# Altium footprint library Michel.PcbLib: 49 footprints (part 3 of 4)
Each footprint in its own frame and in the unit in brackets; x right, y up, seen from the top. Pads: shape width x height; smd on the part's side, far side on the other; paste and mask are expansions set on the pad; w line width, h text height; cw(c..) or ccw(c..) is an arc to the next point about the centre after c.
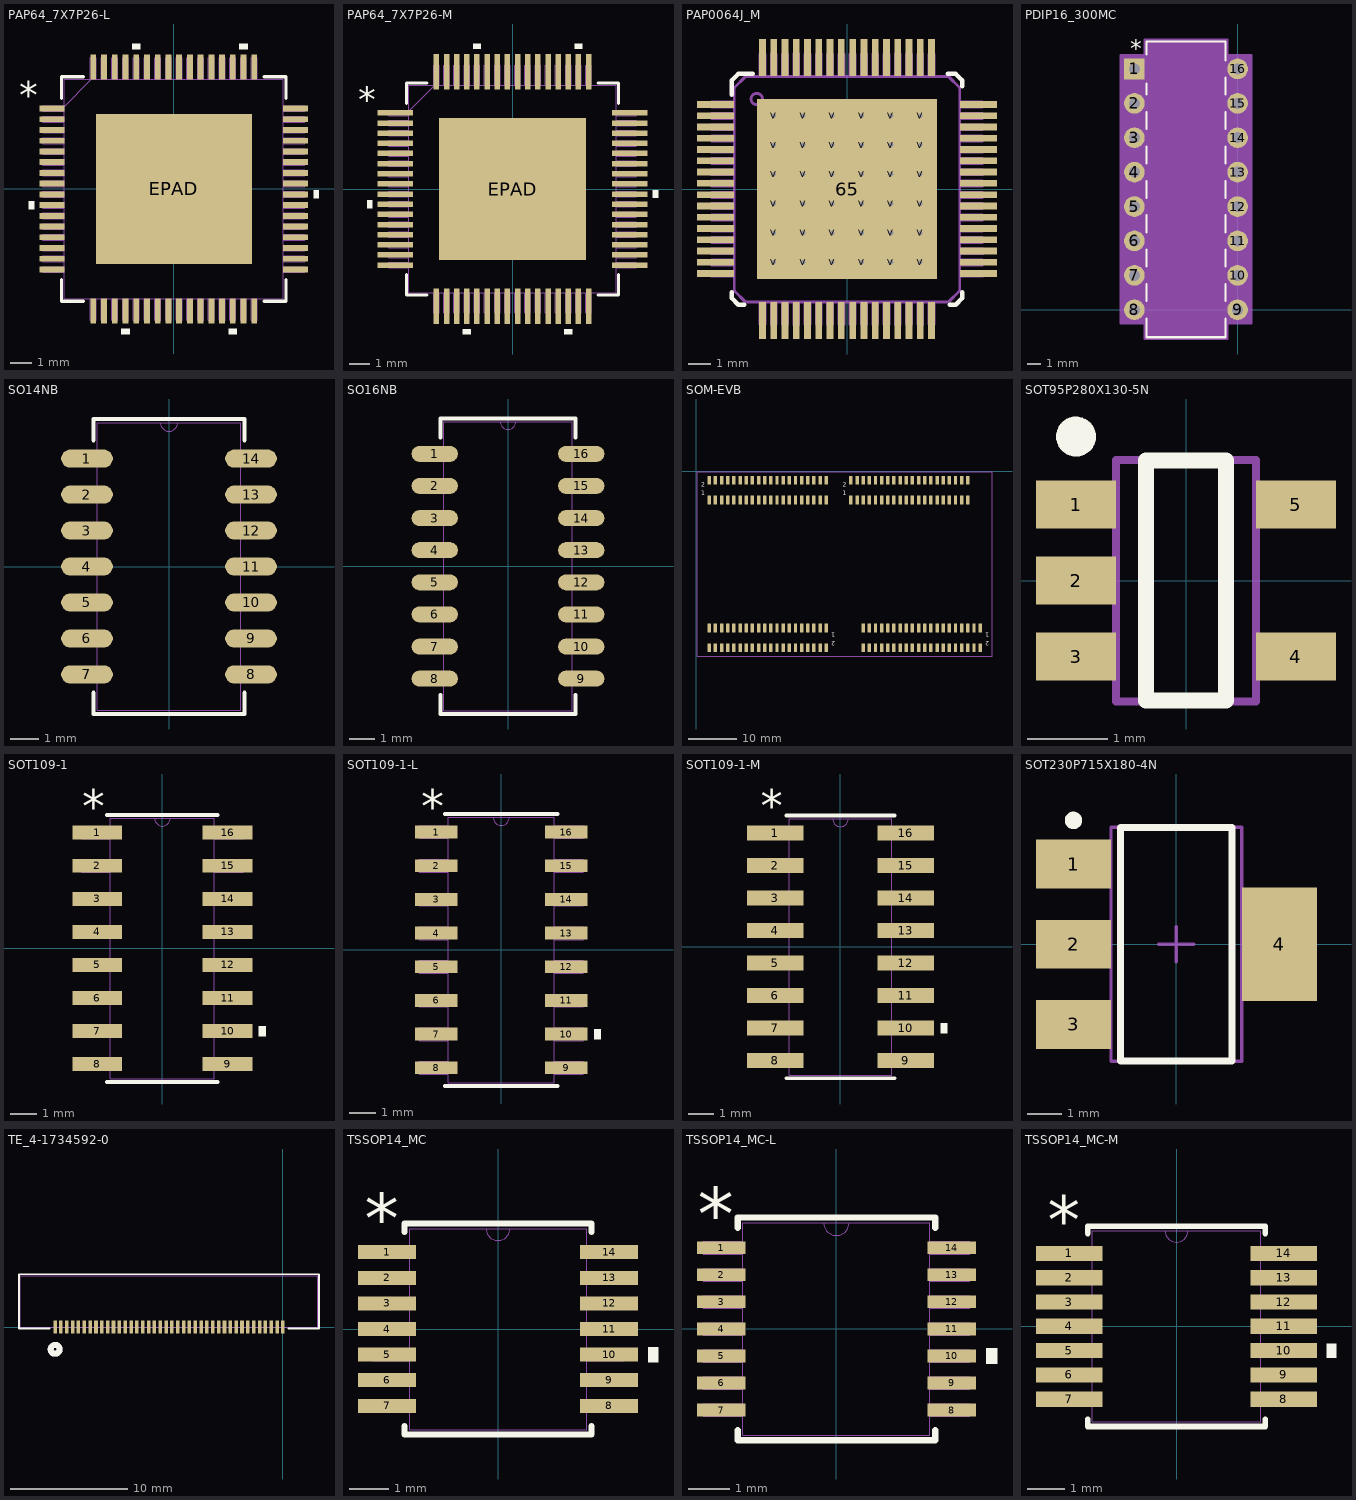
[diagram p2: the footprints below, top view; thin cyan lines are the x and y axes]

## PAP64_7X7P26-L [mm]
pads (65):
  rect 1.156x0.27 smd paste+0 mask+0: 1(-5.674,3.75) 2(-5.674,3.25) 3(-5.674,2.75) 4(-5.674,2.25) 5(-5.674,1.75) 6(-5.674,1.25) 7(-5.674,0.75) 8(-5.674,0.25) 9(-5.674,-0.25) 10(-5.674,-0.75) 11(-5.674,-1.25) 12(-5.674,-1.75) 13(-5.674,-2.25) 14(-5.674,-2.75) 15(-5.674,-3.25) 16(-5.674,-3.75) 33(5.674,-3.75) 34(5.674,-3.25) 35(5.674,-2.75) 36(5.674,-2.25) 37(5.674,-1.75) 38(5.674,-1.25) 39(5.674,-0.75) 40(5.674,-0.25) 41(5.674,0.25) 42(5.674,0.75) 43(5.674,1.25) 44(5.674,1.75) 45(5.674,2.25) 46(5.674,2.75) 47(5.674,3.25) 48(5.674,3.75)
  rect 0.27x1.156 smd paste+0 mask+0: 17(-3.75,-5.674) 18(-3.25,-5.674) 19(-2.75,-5.674) 20(-2.25,-5.674) 21(-1.75,-5.674) 22(-1.25,-5.674) 23(-0.75,-5.674) 24(-0.25,-5.674) 25(0.25,-5.674) 26(0.75,-5.674) 27(1.25,-5.674) 28(1.75,-5.674) 29(2.25,-5.674) 30(2.75,-5.674) 31(3.25,-5.674) 32(3.75,-5.674) 49(3.75,5.674) 50(3.25,5.674) 51(2.75,5.674) 52(2.25,5.674) 53(1.75,5.674) 54(1.25,5.674) 55(0.75,5.674) 56(0.25,5.674) 57(-0.25,5.674) 58(-0.75,5.674) 59(-1.25,5.674) 60(-1.75,5.674) 61(-2.25,5.674) 62(-2.75,5.674) 63(-3.25,5.674) 64(-3.75,5.674)
  rect 7.26x7 smd paste-3.617 mask-3.619: EPAD(0,0)
Top Overlay:
  region: -1.559,6.506 -1.94,6.506 -1.94,6.76 -1.559,6.76
  region: 3.441,6.506 3.06,6.506 3.06,6.76 3.441,6.76
  region: 6.506,-0.059 6.76,-0.059 6.76,-0.44 6.506,-0.44
  region: 2.94,-6.506 2.559,-6.506 2.559,-6.76 2.94,-6.76
  region: -2.06,-6.506 -2.441,-6.506 -2.441,-6.76 -2.06,-6.76
  region: -6.506,-0.56 -6.76,-0.56 -6.76,-0.941 -6.506,-0.941
  lines w0.152: -5.227,-4.218 -5.227,-5.227 -4.218,-5.227 ; -5.227,4.218 -5.227,5.227 -4.218,5.227 ; 4.218,-5.227 5.227,-5.227 5.227,-4.218 ; 4.218,5.227 5.227,5.227 5.227,4.218
  text "*" at -7.205,3.746 h1.27
Top Paste:
  drawing of 90 lines, arcs and shapes, not listed
Top Solder:
  region: 3.35,-3.564 3.35,3.564 3.694,3.564 3.694,-3.564
  region: 2.95,-3.564 2.95,3.564 2.562,3.564 2.562,-3.564
  region: 2.162,-3.564 2.162,3.564 1.775,3.564 1.775,-3.564
  region: 1.375,-3.564 1.375,3.564 0.987,3.564 0.987,-3.564
  region: 0.587,-3.564 0.587,3.564 0.2,3.564 0.2,-3.564
  region: -0.2,-3.564 -0.2,3.564 -0.587,3.564 -0.587,-3.564
  region: -0.987,-3.564 -0.987,3.564 -1.375,3.564 -1.375,-3.564
  region: -1.775,-3.564 -1.775,3.564 -2.162,3.564 -2.162,-3.564
  region: -2.562,-3.564 -2.562,3.564 -2.95,3.564 -2.95,-3.564
  region: -3.694,-3.564 -3.694,3.564 -3.35,3.564 -3.35,-3.564
  region: -3.694,-3.564 -3.694,-2.956 3.694,-2.956 3.694,-3.564
  region: -3.694,-2.556 -3.694,-2.168 3.694,-2.168 3.694,-2.556
  region: -3.694,-1.769 -3.694,-1.381 3.694,-1.381 3.694,-1.769
  region: -3.694,-0.981 -3.694,-0.594 3.694,-0.594 3.694,-0.981
  region: -3.694,-0.194 -3.694,0.194 3.694,0.194 3.694,-0.194
  region: -3.694,0.594 -3.694,0.981 3.694,0.981 3.694,0.594
  region: -3.694,1.381 -3.694,1.769 3.694,1.769 3.694,1.381
  region: -3.694,2.168 -3.694,2.556 3.694,2.556 3.694,2.168
  region: -3.694,2.956 -3.694,3.564 3.694,3.564 3.694,2.956
Mechanical 13:
  drawing of 261 lines, arcs and shapes, not listed
  text "*" at -5.036,3.365 h1.27
Mechanical 16:
  circle w0.127: c3.15,2.756 r0.191
  circle w0.127: c3.15,1.968 r0.191
  circle w0.127: c3.15,1.181 r0.191
  circle w0.127: c3.15,0.394 r0.191
  circle w0.127: c3.15,-0.394 r0.191
  circle w0.127: c3.15,-1.181 r0.191
  circle w0.127: c3.15,-1.968 r0.191
  circle w0.127: c3.15,-2.756 r0.191
  circle w0.127: c2.362,2.756 r0.191
  circle w0.127: c2.362,1.968 r0.191
  circle w0.127: c2.362,1.181 r0.191
  circle w0.127: c2.362,0.394 r0.191
  circle w0.127: c2.362,-0.394 r0.191
  circle w0.127: c2.362,-1.181 r0.191
  circle w0.127: c2.362,-1.968 r0.191
  circle w0.127: c2.362,-2.756 r0.191
  circle w0.127: c1.575,2.756 r0.191
  circle w0.127: c1.575,1.968 r0.191
  circle w0.127: c1.575,1.181 r0.191
  circle w0.127: c1.575,0.394 r0.191
  circle w0.127: c1.575,-0.394 r0.191
  circle w0.127: c1.575,-1.181 r0.191
  circle w0.127: c1.575,-1.968 r0.191
  circle w0.127: c1.575,-2.756 r0.191
  circle w0.127: c0.787,2.756 r0.191
  circle w0.127: c0.787,1.968 r0.191
  circle w0.127: c0.787,1.181 r0.191
  circle w0.127: c0.787,0.394 r0.191
  circle w0.127: c0.787,-0.394 r0.191
  circle w0.127: c0.787,-1.181 r0.191
  circle w0.127: c0.787,-1.968 r0.191
  circle w0.127: c0.787,-2.756 r0.191
  circle w0.127: c0,2.756 r0.191
  circle w0.127: c0,1.968 r0.191
  circle w0.127: c0,1.181 r0.191
  circle w0.127: c0,0.394 r0.191
  circle w0.127: c0,-0.394 r0.191
  circle w0.127: c0,-1.181 r0.191
  circle w0.127: c0,-1.968 r0.191
  circle w0.127: c0,-2.756 r0.191
  circle w0.127: c-0.787,2.756 r0.191
  circle w0.127: c-0.787,1.968 r0.191
  circle w0.127: c-0.787,1.181 r0.191
  circle w0.127: c-0.787,0.394 r0.191
  circle w0.127: c-0.787,-0.394 r0.191
  circle w0.127: c-0.787,-1.181 r0.191
  circle w0.127: c-0.787,-1.968 r0.191
  circle w0.127: c-0.787,-2.756 r0.191
  circle w0.127: c-1.575,2.756 r0.191
  circle w0.127: c-1.575,1.968 r0.191
  circle w0.127: c-1.575,1.181 r0.191
  circle w0.127: c-1.575,0.394 r0.191
  circle w0.127: c-1.575,-0.394 r0.191
  circle w0.127: c-1.575,-1.181 r0.191
  circle w0.127: c-1.575,-1.968 r0.191
  circle w0.127: c-1.575,-2.756 r0.191
  circle w0.127: c-2.362,2.756 r0.191
  circle w0.127: c-2.362,1.968 r0.191
  circle w0.127: c-2.362,1.181 r0.191
  circle w0.127: c-2.362,0.394 r0.191
  circle w0.127: c-2.362,-0.394 r0.191
  circle w0.127: c-2.362,-1.181 r0.191
  circle w0.127: c-2.362,-1.968 r0.191
  circle w0.127: c-2.362,-2.756 r0.191
  circle w0.127: c-3.15,2.756 r0.191
  circle w0.127: c-3.15,1.968 r0.191
  circle w0.127: c-3.15,1.181 r0.191
  circle w0.127: c-3.15,0.394 r0.191
  circle w0.127: c-3.15,-0.394 r0.191
  circle w0.127: c-3.15,-1.181 r0.191
  circle w0.127: c-3.15,-1.968 r0.191
  circle w0.127: c-3.15,-2.756 r0.191
3D body: height 0.25, standoff 0, extent 0,0 0.254,0.254

## PAP64_7X7P26-M [mm]
pads (65):
  rect 1.766x0.27 smd paste+0 mask+0: 1(-5.776,3.75) 2(-5.776,3.25) 3(-5.776,2.75) 4(-5.776,2.25) 5(-5.776,1.75) 6(-5.776,1.25) 7(-5.776,0.75) 8(-5.776,0.25) 9(-5.776,-0.25) 10(-5.776,-0.75) 11(-5.776,-1.25) 12(-5.776,-1.75) 13(-5.776,-2.25) 14(-5.776,-2.75) 15(-5.776,-3.25) 16(-5.776,-3.75) 33(5.776,-3.75) 34(5.776,-3.25) 35(5.776,-2.75) 36(5.776,-2.25) 37(5.776,-1.75) 38(5.776,-1.25) 39(5.776,-0.75) 40(5.776,-0.25) 41(5.776,0.25) 42(5.776,0.75) 43(5.776,1.25) 44(5.776,1.75) 45(5.776,2.25) 46(5.776,2.75) 47(5.776,3.25) 48(5.776,3.75)
  rect 0.27x1.766 smd paste+0 mask+0: 17(-3.75,-5.776) 18(-3.25,-5.776) 19(-2.75,-5.776) 20(-2.25,-5.776) 21(-1.75,-5.776) 22(-1.25,-5.776) 23(-0.75,-5.776) 24(-0.25,-5.776) 25(0.25,-5.776) 26(0.75,-5.776) 27(1.25,-5.776) 28(1.75,-5.776) 29(2.25,-5.776) 30(2.75,-5.776) 31(3.25,-5.776) 32(3.75,-5.776) 49(3.75,5.776) 50(3.25,5.776) 51(2.75,5.776) 52(2.25,5.776) 53(1.75,5.776) 54(1.25,5.776) 55(0.75,5.776) 56(0.25,5.776) 57(-0.25,5.776) 58(-0.75,5.776) 59(-1.25,5.776) 60(-1.75,5.776) 61(-2.25,5.776) 62(-2.75,5.776) 63(-3.25,5.776) 64(-3.75,5.776)
  rect 7.26x7 smd paste-3.617 mask-3.619: EPAD(0,0)
Top Overlay:
  region: -1.559,6.913 -1.94,6.913 -1.94,7.167 -1.559,7.167
  region: 3.441,6.913 3.06,6.913 3.06,7.167 3.441,7.167
  region: 6.913,-0.059 7.167,-0.059 7.167,-0.44 6.913,-0.44
  region: 2.94,-6.913 2.559,-6.913 2.559,-7.167 2.94,-7.167
  region: -2.06,-6.913 -2.441,-6.913 -2.441,-7.167 -2.06,-7.167
  region: -6.913,-0.56 -7.167,-0.56 -7.167,-0.941 -6.913,-0.941
  lines w0.152: -5.227,-4.218 -5.227,-5.227 -4.218,-5.227 ; -5.227,4.218 -5.227,5.227 -4.218,5.227 ; 4.218,-5.227 5.227,-5.227 5.227,-4.218 ; 4.218,5.227 5.227,5.227 5.227,4.218
  text "*" at -7.611,3.746 h1.27
Top Paste:
  drawing of 90 lines, arcs and shapes, not listed
Top Solder:
  region: 3.35,-3.564 3.35,3.564 3.694,3.564 3.694,-3.564
  region: 2.95,-3.564 2.95,3.564 2.562,3.564 2.562,-3.564
  region: 2.162,-3.564 2.162,3.564 1.775,3.564 1.775,-3.564
  region: 1.375,-3.564 1.375,3.564 0.987,3.564 0.987,-3.564
  region: 0.587,-3.564 0.587,3.564 0.2,3.564 0.2,-3.564
  region: -0.2,-3.564 -0.2,3.564 -0.587,3.564 -0.587,-3.564
  region: -0.987,-3.564 -0.987,3.564 -1.375,3.564 -1.375,-3.564
  region: -1.775,-3.564 -1.775,3.564 -2.162,3.564 -2.162,-3.564
  region: -2.562,-3.564 -2.562,3.564 -2.95,3.564 -2.95,-3.564
  region: -3.694,-3.564 -3.694,3.564 -3.35,3.564 -3.35,-3.564
  region: -3.694,-3.564 -3.694,-2.956 3.694,-2.956 3.694,-3.564
  region: -3.694,-2.556 -3.694,-2.168 3.694,-2.168 3.694,-2.556
  region: -3.694,-1.769 -3.694,-1.381 3.694,-1.381 3.694,-1.769
  region: -3.694,-0.981 -3.694,-0.594 3.694,-0.594 3.694,-0.981
  region: -3.694,-0.194 -3.694,0.194 3.694,0.194 3.694,-0.194
  region: -3.694,0.594 -3.694,0.981 3.694,0.981 3.694,0.594
  region: -3.694,1.381 -3.694,1.769 3.694,1.769 3.694,1.381
  region: -3.694,2.168 -3.694,2.556 3.694,2.556 3.694,2.168
  region: -3.694,2.956 -3.694,3.564 3.694,3.564 3.694,2.956
Mechanical 13:
  drawing of 261 lines, arcs and shapes, not listed
  text "*" at -5.036,3.365 h1.27
Mechanical 16:
  circle w0.127: c3.15,2.756 r0.191
  circle w0.127: c3.15,1.968 r0.191
  circle w0.127: c3.15,1.181 r0.191
  circle w0.127: c3.15,0.394 r0.191
  circle w0.127: c3.15,-0.394 r0.191
  circle w0.127: c3.15,-1.181 r0.191
  circle w0.127: c3.15,-1.968 r0.191
  circle w0.127: c3.15,-2.756 r0.191
  circle w0.127: c2.362,2.756 r0.191
  circle w0.127: c2.362,1.968 r0.191
  circle w0.127: c2.362,1.181 r0.191
  circle w0.127: c2.362,0.394 r0.191
  circle w0.127: c2.362,-0.394 r0.191
  circle w0.127: c2.362,-1.181 r0.191
  circle w0.127: c2.362,-1.968 r0.191
  circle w0.127: c2.362,-2.756 r0.191
  circle w0.127: c1.575,2.756 r0.191
  circle w0.127: c1.575,1.968 r0.191
  circle w0.127: c1.575,1.181 r0.191
  circle w0.127: c1.575,0.394 r0.191
  circle w0.127: c1.575,-0.394 r0.191
  circle w0.127: c1.575,-1.181 r0.191
  circle w0.127: c1.575,-1.968 r0.191
  circle w0.127: c1.575,-2.756 r0.191
  circle w0.127: c0.787,2.756 r0.191
  circle w0.127: c0.787,1.968 r0.191
  circle w0.127: c0.787,1.181 r0.191
  circle w0.127: c0.787,0.394 r0.191
  circle w0.127: c0.787,-0.394 r0.191
  circle w0.127: c0.787,-1.181 r0.191
  circle w0.127: c0.787,-1.968 r0.191
  circle w0.127: c0.787,-2.756 r0.191
  circle w0.127: c0,2.756 r0.191
  circle w0.127: c0,1.968 r0.191
  circle w0.127: c0,1.181 r0.191
  circle w0.127: c0,0.394 r0.191
  circle w0.127: c0,-0.394 r0.191
  circle w0.127: c0,-1.181 r0.191
  circle w0.127: c0,-1.968 r0.191
  circle w0.127: c0,-2.756 r0.191
  circle w0.127: c-0.787,2.756 r0.191
  circle w0.127: c-0.787,1.968 r0.191
  circle w0.127: c-0.787,1.181 r0.191
  circle w0.127: c-0.787,0.394 r0.191
  circle w0.127: c-0.787,-0.394 r0.191
  circle w0.127: c-0.787,-1.181 r0.191
  circle w0.127: c-0.787,-1.968 r0.191
  circle w0.127: c-0.787,-2.756 r0.191
  circle w0.127: c-1.575,2.756 r0.191
  circle w0.127: c-1.575,1.968 r0.191
  circle w0.127: c-1.575,1.181 r0.191
  circle w0.127: c-1.575,0.394 r0.191
  circle w0.127: c-1.575,-0.394 r0.191
  circle w0.127: c-1.575,-1.181 r0.191
  circle w0.127: c-1.575,-1.968 r0.191
  circle w0.127: c-1.575,-2.756 r0.191
  circle w0.127: c-2.362,2.756 r0.191
  circle w0.127: c-2.362,1.968 r0.191
  circle w0.127: c-2.362,1.181 r0.191
  circle w0.127: c-2.362,0.394 r0.191
  circle w0.127: c-2.362,-0.394 r0.191
  circle w0.127: c-2.362,-1.181 r0.191
  circle w0.127: c-2.362,-1.968 r0.191
  circle w0.127: c-2.362,-2.756 r0.191
  circle w0.127: c-3.15,2.756 r0.191
  circle w0.127: c-3.15,1.968 r0.191
  circle w0.127: c-3.15,1.181 r0.191
  circle w0.127: c-3.15,0.394 r0.191
  circle w0.127: c-3.15,-0.394 r0.191
  circle w0.127: c-3.15,-1.181 r0.191
  circle w0.127: c-3.15,-1.968 r0.191
  circle w0.127: c-3.15,-2.756 r0.191
3D body: height 0.25, standoff 0, extent 0,0 0.254,0.254

## PAP0064J_M [mm]
pads (101):
  rect 1.65x0.3 smd paste+0 mask+0.051: 1(-5.825,3.75) 2(-5.825,3.25) 3(-5.825,2.75) 4(-5.825,2.25) 5(-5.825,1.75) 6(-5.825,1.25) 7(-5.825,0.75) 8(-5.825,0.25) 9(-5.825,-0.25) 10(-5.825,-0.75) 11(-5.825,-1.25) 12(-5.825,-1.75) 13(-5.825,-2.25) 14(-5.825,-2.75) 15(-5.825,-3.25) 16(-5.825,-3.75) 33(5.825,-3.75) 34(5.825,-3.25) 35(5.825,-2.75) 36(5.825,-2.25) 37(5.825,-1.75) 38(5.825,-1.25) 39(5.825,-0.75) 40(5.825,-0.25) 41(5.825,0.25) 42(5.825,0.75) 43(5.825,1.25) 44(5.825,1.75) 45(5.825,2.25) 46(5.825,2.75) 47(5.825,3.25) 48(5.825,3.75)
  rect 0.3x1.65 smd paste+0 mask+0.051: 17(-3.75,-5.825) 18(-3.25,-5.825) 19(-2.75,-5.825) 20(-2.25,-5.825) 21(-1.75,-5.825) 22(-1.25,-5.825) 23(-0.75,-5.825) 24(-0.25,-5.825) 25(0.25,-5.825) 26(0.75,-5.825) 27(1.25,-5.825) 28(1.75,-5.825) 29(2.25,-5.825) 30(2.75,-5.825) 31(3.25,-5.825) 32(3.75,-5.825) 49(3.75,5.825) 50(3.25,5.825) 51(2.75,5.825) 52(2.25,5.825) 53(1.75,5.825) 54(1.25,5.825) 55(0.75,5.825) 56(0.25,5.825) 57(-0.25,5.825) 58(-0.75,5.825) 59(-1.25,5.825) 60(-1.75,5.825) 61(-2.25,5.825) 62(-2.75,5.825) 63(-3.25,5.825) 64(-3.75,5.825)
  rect 8x8 smd paste-3.987 mask-3.988: 65(0,0)
  round 0.5 / inner round 1.524 / far side round 0.5 hole 0.203 mask-0.241: V(-3.25,-3.25) V(-3.25,-1.95) V(-3.25,-0.65) V(-3.25,0.65) V(-3.25,1.95) V(-3.25,3.25) V(-1.95,-3.25) V(-1.95,-1.95) V(-1.95,-0.65) V(-1.95,0.65) V(-1.95,1.95) V(-1.95,3.25) V(-0.65,-3.25) V(-0.65,-1.95) V(-0.65,-0.65) V(-0.65,0.65) V(-0.65,1.95) V(-0.65,3.25) V(0.65,-3.25) V(0.65,-1.95) V(0.65,-0.65) V(0.65,0.65) V(0.65,1.95) V(0.65,3.25) V(1.95,-3.25) V(1.95,-1.95) V(1.95,-0.65) V(1.95,0.65) V(1.95,1.95) V(1.95,3.25) V(3.25,-3.25) V(3.25,-1.95) V(3.25,-0.65) V(3.25,0.65) V(3.25,1.95) V(3.25,3.25)
Top Overlay:
  lines w0.2: -5.1,-4.575 -5.1,-4.85 -4.825,-5.125 ; -5.1,4.175 -5.1,4.8 ; -5.1,4.825 -4.825,5.1 -4.175,5.1 ; -4.75,-5.125 -4.55,-5.125 ; 4.475,5.1 4.55,5.1 4.75,5.1 ; 4.55,-5.125 4.825,-5.125 5.1,-4.85 ; 4.825,5.1 5.1,4.825 5.1,4.55 ; 5.1,-4.775 5.1,-4.575
Top Paste:
  region: -3.499,-3.602 -3.5,-3.595 -3.5,3.595 -3.499,3.602 -3.497,3.608 -3.494,3.614 -3.49,3.62 -3.484,3.624 -3.478,3.627 -3.472,3.629 -3.465,3.63 3.465,3.63 3.472,3.629 3.478,3.627 3.484,3.624 3.49,3.62 3.494,3.614 3.497,3.608 3.499,3.602 3.5,3.595 3.5,-3.595 3.499,-3.602 3.497,-3.608 3.494,-3.614 3.49,-3.62 3.484,-3.624 3.478,-3.627 3.472,-3.629 3.465,-3.63 -3.465,-3.63 -3.472,-3.629 -3.478,-3.627 -3.484,-3.624 -3.49,-3.62 -3.494,-3.614 -3.497,-3.608
Top Solder:
  region: -3.499,-3.602 -3.5,-3.595 -3.5,3.595 -3.499,3.602 -3.497,3.608 -3.494,3.614 -3.49,3.62 -3.484,3.624 -3.478,3.627 -3.472,3.629 -3.465,3.63 3.465,3.63 3.472,3.629 3.478,3.627 3.484,3.624 3.49,3.62 3.494,3.614 3.497,3.608 3.499,3.602 3.5,3.595 3.5,-3.595 3.499,-3.602 3.497,-3.608 3.494,-3.614 3.49,-3.62 3.484,-3.624 3.478,-3.627 3.472,-3.629 3.465,-3.63 -3.465,-3.63 -3.472,-3.629 -3.478,-3.627 -3.484,-3.624 -3.49,-3.62 -3.494,-3.614 -3.497,-3.608
Mechanical 13:
  drawing of 786 lines, arcs and shapes, not listed
Mechanical 15:
  lines w0.1: -0.5,0 0.5,0 ; 0,-0.5 0,0.5
3D body: height 0.25, standoff 0, extent 0,0 0.254,0.254

## PDIP16_300MC [mil]
pads (16):
  rect 60x60 / inner round 60 / far side rect 60x60 hole 32 paste+0 mask+0: 1(-300,700)
  round 60 hole 32 paste+0 mask+0: 2(-300,600) 3(-300,500) 4(-300,400) 5(-300,300) 6(-300,200) 7(-300,100) 8(-300,0) 9(0,0) 10(0,100) 11(0,200) 12(0,300) 13(0,400) 14(0,500) 15(0,600) 16(0,700)
Top Overlay:
  lines w6: -265,-25.15 -265,-80 -35,-80 -35,-25.15 ; -265,25.15 -265,74.85 ; -265,125.15 -265,174.85 ; -265,225.15 -265,274.85 ; -265,325.15 -265,374.85 ; -265,425.15 -265,474.85 ; -265,525.15 -265,574.85 ; -265,625.15 -265,657.89 ; -265,742.11 -265,780 -35,780 -35,725.15 ; -35,25.15 -35,74.85 ; -35,125.15 -35,174.85 ; -35,225.15 -35,274.85 ; -35,325.15 -35,374.85 ; -35,425.15 -35,474.85 ; -35,525.15 -35,574.85 ; -35,625.15 -35,674.85
  text "*" at -312.5,735 h50
Mechanical 13:
  lines w0: -162,775 ccw(c-150,775) -138,775
  lines w1: -316,-16 -316,16 -260,16 -260,-16 -316,-16 ; -316,84 -316,116 -260,116 -260,84 -316,84 ; -316,184 -316,216 -260,216 -260,184 -316,184 ; -316,284 -316,316 -260,316 -260,284 -316,284 ; -316,384 -316,416 -260,416 -260,384 -316,384 ; -316,484 -316,516 -260,516 -260,484 -316,484 ; -316,584 -316,616 -260,616 -260,584 -316,584 ; -316,684 -316,716 -260,716 -260,684 -316,684 ; -260,-75 -40,-75 -40,775 -260,775 -260,-75 ; -40,-16 -40,16 16,16 16,-16 -40,-16 ; -40,84 -40,116 16,116 16,84 -40,84 ; -40,184 -40,216 16,216 16,184 -40,184 ; -40,284 -40,316 16,316 16,284 -40,284 ; -40,384 -40,416 16,416 16,384 -40,384 ; -40,484 -40,516 16,516 16,484 -40,484 ; -40,584 -40,616 16,616 16,584 -40,584 ; -40,684 -40,716 16,716 16,684 -40,684
  text "*" at -262.5,675 h50
Mechanical 15:
  region: -30,-40 40,-40 40,740 -30,740 -30,785 -270,785 -270,740 -340,740 -340,-40 -270,-40 -270,-85 -30,-85
  lines w6: -340,-40 -340,740 -270,740 -270,785 -30,785 -30,740 40,740 40,-40 -30,-40 -30,-85 -270,-85 -270,-40 -340,-40
3D body: height 10, standoff 0, extent 0,0 10,10

## SO14NB [mil]
pads (14):
  oval 72x25 smd paste+0 mask+0: 1(-114,150) 2(-114,100) 3(-114,50) 4(-114,0) 5(-114,-50) 6(-114,-100) 7(-114,-150) 8(114,-150) 9(114,-100) 10(114,-50) 11(114,0) 12(114,50) 13(114,100) 14(114,150)
Top Overlay:
  lines w6: -105,-175.6 -105,-205 105,-205 105,-175.6 ; -105,175.6 -105,205 105,205 105,175.6
Mechanical 13:
  lines w0: -12,200 ccw(c0,200) 12,200
  lines w1: -100,-200 -100,200 100,200 100,-200 -100,-200
3D body: height 10, standoff 0, extent 0,0 10,10

## SO16NB [mil]
pads (16):
  oval 72x25 smd paste+0 mask+0: 1(-114,175) 2(-114,125) 3(-114,75) 4(-114,25) 5(-114,-25) 6(-114,-75) 7(-114,-125) 8(-114,-175) 9(114,-175) 10(114,-125) 11(114,-75) 12(114,-25) 13(114,25) 14(114,75) 15(114,125) 16(114,175)
Top Overlay:
  lines w6: -105,-200.6 -105,-230 105,-230 105,-200.6 ; -105,200.6 -105,230 105,230 105,200.6
Mechanical 13:
  lines w0: -12,225 ccw(c0,225) 12,225
  lines w1: -100,-225 -100,225 100,225 100,-225 -100,-225
3D body: height 10, standoff 0, extent 0,0 10,10

## SOM-EVB [mil]
pads (160):
  rect 28x71 smd: 1-1(105,-235) 1-2(105,-75) 1-3(155,-235) 1-4(155,-75) 1-5(205,-235) 1-6(205,-75) 1-7(255,-235) 1-8(255,-75) 1-9(305,-235) 1-10(305,-75) 1-11(355,-235) 1-12(355,-75) 1-13(405,-235) 1-14(405,-75) 1-15(455,-235) 1-16(455,-75) 1-17(505,-235) 1-18(505,-75) 1-19(555,-235) 1-20(555,-75) 1-21(605,-235) 1-22(605,-75) 1-23(655,-235) 1-24(655,-75) 1-25(705,-235) 1-26(705,-75) 1-27(755,-235) 1-28(755,-75) 1-29(805,-235) 1-30(805,-75) 1-31(855,-235) 1-32(855,-75) 1-33(905,-235) 1-34(905,-75) 1-35(955,-235) 1-36(955,-75) 1-37(1005,-235) 1-38(1005,-75) 1-39(1055,-235) 1-40(1055,-75) 2-1(1255,-235) 2-2(1255,-75) 2-3(1305,-235) 2-4(1305,-75) 2-5(1355,-235) 2-6(1355,-75) 2-7(1405,-235) 2-8(1405,-75) 2-9(1455,-235) 2-10(1455,-75) 2-11(1505,-235) 2-12(1505,-75) 2-13(1555,-235) 2-14(1555,-75) 2-15(1605,-235) 2-16(1605,-75) 2-17(1655,-235) 2-18(1655,-75) 2-19(1705,-235) 2-20(1705,-75) 2-21(1755,-235) 2-22(1755,-75) 2-23(1805,-235) 2-24(1805,-75) 2-25(1855,-235) 2-26(1855,-75) 2-27(1905,-235) 2-28(1905,-75) 2-29(1955,-235) 2-30(1955,-75) 2-31(2005,-235) 2-32(2005,-75) 2-33(2055,-235) 2-34(2055,-75) 2-35(2105,-235) 2-36(2105,-75) 2-37(2155,-235) 2-38(2155,-75) 2-39(2205,-235) 2-40(2205,-75) 3-1(2305,-1275) 3-2(2305,-1435) 3-3(2255,-1275) 3-4(2255,-1435) 3-5(2205,-1275) 3-6(2205,-1435) 3-7(2155,-1275) 3-8(2155,-1435) 3-9(2105,-1275) 3-10(2105,-1435) 3-11(2055,-1275) 3-12(2055,-1435) 3-13(2005,-1275) 3-14(2005,-1435) 3-15(1955,-1275) 3-16(1955,-1435) 3-17(1905,-1275) 3-18(1905,-1435) 3-19(1855,-1275) 3-20(1855,-1435) 3-21(1805,-1275) 3-22(1805,-1435) 3-23(1755,-1275) 3-24(1755,-1435) 3-25(1705,-1275) 3-26(1705,-1435) 3-27(1655,-1275) 3-28(1655,-1435) 3-29(1605,-1275) 3-30(1605,-1435) 3-31(1555,-1275) 3-32(1555,-1435) 3-33(1505,-1275) 3-34(1505,-1435) 3-35(1455,-1275) 3-36(1455,-1435) 3-37(1405,-1275) 3-38(1405,-1435) 3-39(1355,-1275) 3-40(1355,-1435) 4-1(1055,-1275) 4-2(1055,-1435) 4-3(1005,-1275) 4-4(1005,-1435) 4-5(955,-1275) 4-6(955,-1435) 4-7(905,-1275) 4-8(905,-1435) 4-9(855,-1275) 4-10(855,-1435) 4-11(805,-1275) 4-12(805,-1435) 4-13(755,-1275) 4-14(755,-1435) 4-15(705,-1275) 4-16(705,-1435) 4-17(655,-1275) 4-18(655,-1435) 4-19(605,-1275) 4-20(605,-1435) 4-21(555,-1275) 4-22(555,-1435) 4-23(505,-1275) 4-24(505,-1435) 4-25(455,-1275) 4-26(455,-1435) 4-27(405,-1275) 4-28(405,-1435) 4-29(355,-1275) 4-30(355,-1435) 4-31(305,-1275) 4-32(305,-1435) 4-33(255,-1275) 4-34(255,-1435) 4-35(205,-1275) 4-36(205,-1435) 4-37(155,-1275) 4-38(155,-1435) 4-39(105,-1275) 4-40(105,-1435)
Top Overlay:
  text "1" at 40,-210 h62
  text "2" at 40,-140 h62
  text "1" at 1190,-210 h62
  text "2" at 1190,-140 h62
  text "1" at 2380,-1300 h62
  text "2" at 2380,-1370 h62
  text "1" at 1130,-1300 h62
  text "2" at 1130,-1370 h62
Mechanical 2:
  text "AM_CON-LCD" at 455,-280 h62
  text "AM_CON-GPIO1" at 1655,-280 h62
  text "AM_CON-GPIO2" at 1905,-1230 h62
  text "AM_CON-GPIO3" at 655,-1230 h62
Mechanical 4:
  text "GPH127SMT-02X20(PA-V16X-2X20-LF)" at 1055,-280 h24.8
  text "GPH127SMT-02X20(PA-V16X-2X20-LF)" at 2205,-280 h24.8
  text "GPH127SMT-02X20(PA-V16X-2X20-LF)" at 1355,-1230 h24.8
  text "GPH127SMT-02X20(PA-V16X-2X20-LF)" at 105,-1230 h24.8
Mechanical 16:
  lines w10: 5,-1505 5,-5 2405,-5 2405,-1505 5,-1505
  text "SOM-EVB" at 580,-855 h310

## SOT95P280X130-5N [mm] "SOT23, 5-Leads, Body 2.91x2.80mm, Pitch 0.95mm, IPC Medium Density"
height 1.3
pads (5):
  rect 1x0.6 smd: 1(-1.375,0.95) 2(-1.375,0) 3(-1.375,-0.95) 4(1.375,-0.95) 5(1.375,0.95)
Top Overlay:
  circle w0.25: c-1.375,1.8 r0.125
  lines w0.2: -0.5,-1.5 0.5,-1.5 0.5,1.5 -0.5,1.5 -0.5,-1.5
Mechanical 13:
  lines w0.1: -0.875,-1.51 -0.875,1.51 0.875,1.51 0.875,-1.51 -0.875,-1.51
3D body: height 1.3, standoff 0.15, extent -0.875,-1.51 0.875,1.51

## SOT109-1 [mil]
pads (16):
  rect 75x21 smd paste+0 mask+0: 1(-98.5,175) 2(-98.5,125) 3(-98.5,75) 4(-98.5,25) 5(-98.5,-25) 6(-98.5,-75) 7(-98.5,-125) 8(-98.5,-175) 9(98.5,-175) 10(98.5,-125) 11(98.5,-75) 12(98.5,-25) 13(98.5,25) 14(98.5,75) 15(98.5,125) 16(98.5,175)
Top Overlay:
  region: 146,-117.5 156,-117.5 156,-132.5 146,-132.5
  lines w6: -83.5,-202 83.5,-202 ; -83.5,202 83.5,202
  text "*" at -121,191 h50
Mechanical 13:
  lines w0: -12,197 ccw(c0,197) 12,197
  lines w1: -122,-184.5 -78.5,-184.5 -78.5,-165.5 -122,-165.5 -122,-184.5 ; -122,-134.5 -78.5,-134.5 -78.5,-115.5 -122,-115.5 -122,-134.5 ; -122,-84.5 -78.5,-84.5 -78.5,-65.5 -122,-65.5 -122,-84.5 ; -122,-34.5 -78.5,-34.5 -78.5,-15.5 -122,-15.5 -122,-34.5 ; -122,15.5 -78.5,15.5 -78.5,34.5 -122,34.5 -122,15.5 ; -122,65.5 -78.5,65.5 -78.5,84.5 -122,84.5 -122,65.5 ; -122,115.5 -78.5,115.5 -78.5,134.5 -122,134.5 -122,115.5 ; -122,165.5 -78.5,165.5 -78.5,184.5 -122,184.5 -122,165.5 ; -78.5,-197 -78.5,197 78.5,197 78.5,-197 -78.5,-197 ; 78.5,-184.5 122,-184.5 122,-165.5 78.5,-165.5 78.5,-184.5 ; 78.5,-134.5 122,-134.5 122,-115.5 78.5,-115.5 78.5,-134.5 ; 78.5,-84.5 122,-84.5 122,-65.5 78.5,-65.5 78.5,-84.5 ; 78.5,-34.5 122,-34.5 122,-15.5 78.5,-15.5 78.5,-34.5 ; 78.5,15.5 122,15.5 122,34.5 78.5,34.5 78.5,15.5 ; 78.5,65.5 122,65.5 122,84.5 78.5,84.5 78.5,65.5 ; 78.5,115.5 122,115.5 122,134.5 78.5,134.5 78.5,115.5 ; 78.5,165.5 122,165.5 122,184.5 78.5,184.5 78.5,165.5
  text "*" at -76,144 h50
3D body: height 10, standoff 0, extent 0,0 10,10

## SOT109-1-L [mil]
pads (16):
  rect 63x19 smd paste+0 mask+0: 1(-96.5,175) 2(-96.5,125) 3(-96.5,75) 4(-96.5,25) 5(-96.5,-25) 6(-96.5,-75) 7(-96.5,-125) 8(-96.5,-175) 9(96.5,-175) 10(96.5,-125) 11(96.5,-75) 12(96.5,-25) 13(96.5,25) 14(96.5,75) 15(96.5,125) 16(96.5,175)
Top Overlay:
  region: 138,-117.5 148,-117.5 148,-132.5 138,-132.5
  lines w6: -83.5,-202 83.5,-202 ; -83.5,202 83.5,202
  text "*" at -119,189 h50
Mechanical 13:
  lines w0: -12,197 ccw(c0,197) 12,197
  lines w1: -122,-184.5 -122,-165.5 -78.5,-165.5 -78.5,-184.5 -122,-184.5 ; -122,-134.5 -122,-115.5 -78.5,-115.5 -78.5,-134.5 -122,-134.5 ; -122,-84.5 -122,-65.5 -78.5,-65.5 -78.5,-84.5 -122,-84.5 ; -122,-34.5 -122,-15.5 -78.5,-15.5 -78.5,-34.5 -122,-34.5 ; -122,15.5 -122,34.5 -78.5,34.5 -78.5,15.5 -122,15.5 ; -122,65.5 -122,84.5 -78.5,84.5 -78.5,65.5 -122,65.5 ; -122,115.5 -122,134.5 -78.5,134.5 -78.5,115.5 -122,115.5 ; -122,165.5 -122,184.5 -78.5,184.5 -78.5,165.5 -122,165.5 ; -78.5,-197 78.5,-197 78.5,197 -78.5,197 -78.5,-197 ; 78.5,-184.5 78.5,-165.5 122,-165.5 122,-184.5 78.5,-184.5 ; 78.5,-134.5 78.5,-115.5 122,-115.5 122,-134.5 78.5,-134.5 ; 78.5,-84.5 78.5,-65.5 122,-65.5 122,-84.5 78.5,-84.5 ; 78.5,-34.5 78.5,-15.5 122,-15.5 122,-34.5 78.5,-34.5 ; 78.5,15.5 78.5,34.5 122,34.5 122,15.5 78.5,15.5 ; 78.5,65.5 78.5,84.5 122,84.5 122,65.5 78.5,65.5 ; 78.5,115.5 78.5,134.5 122,134.5 122,115.5 78.5,115.5 ; 78.5,165.5 78.5,184.5 122,184.5 122,165.5 78.5,165.5
  text "*" at -76,144 h50
3D body: height 10, standoff 0, extent 0,0 10,10

## SOT109-1-M [mil]
pads (16):
  rect 87x23 smd paste+0 mask+0: 1(-100.5,175) 2(-100.5,125) 3(-100.5,75) 4(-100.5,25) 5(-100.5,-25) 6(-100.5,-75) 7(-100.5,-125) 8(-100.5,-175) 9(100.5,-175) 10(100.5,-125) 11(100.5,-75) 12(100.5,-25) 13(100.5,25) 14(100.5,75) 15(100.5,125) 16(100.5,175)
Top Overlay:
  region: 154,-117.5 164,-117.5 164,-132.5 154,-132.5
  lines w6: -83.5,-202 83.5,-202 ; -83.5,202 83.5,202
  text "*" at -123,193 h50
Mechanical 13:
  lines w0: -12,197 ccw(c0,197) 12,197
  lines w1: -122,-184.5 -122,-165.5 -78.5,-165.5 -78.5,-184.5 -122,-184.5 ; -122,-134.5 -122,-115.5 -78.5,-115.5 -78.5,-134.5 -122,-134.5 ; -122,-84.5 -122,-65.5 -78.5,-65.5 -78.5,-84.5 -122,-84.5 ; -122,-34.5 -122,-15.5 -78.5,-15.5 -78.5,-34.5 -122,-34.5 ; -122,15.5 -122,34.5 -78.5,34.5 -78.5,15.5 -122,15.5 ; -122,65.5 -122,84.5 -78.5,84.5 -78.5,65.5 -122,65.5 ; -122,115.5 -122,134.5 -78.5,134.5 -78.5,115.5 -122,115.5 ; -122,165.5 -122,184.5 -78.5,184.5 -78.5,165.5 -122,165.5 ; -78.5,-197 78.5,-197 78.5,197 -78.5,197 -78.5,-197 ; 78.5,-184.5 78.5,-165.5 122,-165.5 122,-184.5 78.5,-184.5 ; 78.5,-134.5 78.5,-115.5 122,-115.5 122,-134.5 78.5,-134.5 ; 78.5,-84.5 78.5,-65.5 122,-65.5 122,-84.5 78.5,-84.5 ; 78.5,-34.5 78.5,-15.5 122,-15.5 122,-34.5 78.5,-34.5 ; 78.5,15.5 78.5,34.5 122,34.5 122,15.5 78.5,15.5 ; 78.5,65.5 78.5,84.5 122,84.5 122,65.5 78.5,65.5 ; 78.5,115.5 78.5,134.5 122,134.5 122,115.5 78.5,115.5 ; 78.5,165.5 78.5,184.5 122,184.5 122,165.5 78.5,165.5
  text "*" at -76,144 h50
3D body: height 10, standoff 0, extent 0,0 10,10

## SOT230P715X180-4N [mm] "SOT223, 4-Leads, Body 6.60x7.15mm (avg), Pitch 2.30mm, IPC Medium Density"
height 1.8
pads (4):
  rect 2.15x1.4 smd: 1(-2.95,2.3) 2(-2.95,0) 3(-2.95,-2.3)
  rect 2.15x3.25 smd: 4(2.95,0)
Top Overlay:
  circle w0.25: c-2.95,3.55 r0.125
  lines w0.2: -1.6,-3.35 -1.6,3.35 1.6,3.35 1.6,-3.35 -1.6,-3.35
Mechanical 13:
  lines w0.1: -1.875,-3.35 -1.875,3.35 1.875,3.35 1.875,-3.35 -1.875,-3.35
Mechanical 15:
  lines w0.1: -0.5,0 0.5,0 ; 0,-0.5 0,0.5
3D body: height 1.8, standoff 0.02, extent -1.875,-3.35 1.875,3.35

## TE_4-1734592-0 [mil]
pads (40):
  rect 12x43 smd: 1(-767.72,0) 2(-748.03,0) 3(-728.35,0) 4(-708.66,0) 5(-688.98,0) 6(-669.29,0) 7(-649.61,0) 8(-629.92,0) 9(-610.24,0) 10(-590.55,0) 11(-570.87,0) 12(-551.18,0) 13(-531.5,0) 14(-511.81,0) 15(-492.13,0) 16(-472.44,0) 17(-452.76,0) 18(-433.07,0) 19(-413.39,0) 20(-393.7,0) 21(-374.02,0) 22(-354.33,0) 23(-334.65,0) 24(-314.96,0) 25(-295.28,0) 26(-275.59,0) 27(-255.91,0) 28(-236.22,0) 29(-216.54,0) 30(-196.85,0) 31(-177.17,0) 32(-157.48,0) 33(-137.8,0) 34(-118.11,0) 35(-98.43,0) 36(-78.74,0) 37(-59.06,0) 38(-39.37,0) 39(-19.69,0) 40(0,0)
Top Overlay:
  circle w20: c-767.72,-75 r15
  lines w6: -786.82,-5 -889.36,-5 -889.36,178 121.64,178 121.64,-5 19.1,-5
Bottom Overlay:
  circle w20: c-767.72,-75 r15
Mechanical 13:
  circle w20: c-767.72,-75 r15
  lines w1: -884.36,0 -884.36,173 116.64,173 116.64,0 -884.36,0
3D body: height 10, standoff 0, extent 0,0 10,10

## TSSOP14_MC [mil]
pads (14):
  rect 58x14 smd paste+0 mask+0: 1(-111,76.77) 2(-111,51.18) 3(-111,25.59) 4(-111,0) 5(-111,-25.59) 6(-111,-51.18) 7(-111,-76.77) 8(111,-76.77) 9(111,-51.18) 10(111,-25.59) 11(111,0) 12(111,25.59) 13(111,51.18) 14(111,76.77)
Top Overlay:
  region: 150,-18.09 160,-18.09 160,-33.09 150,-33.09
  lines w6: -93.5,-96.87 -93.5,-105.5 93.5,-105.5 93.5,-96.87 ; -93.5,96.87 -93.5,105.5 93.5,105.5 93.5,96.87
  text "*" at -133.5,85.77 h50
Mechanical 13:
  lines w0: -12,100.5 ccw(c0,100.5) 12,100.5
  lines w1: -126,-82.77 -126,-70.77 -88.5,-70.77 -88.5,-82.77 -126,-82.77 ; -126,-57.18 -126,-45.18 -88.5,-45.18 -88.5,-57.18 -126,-57.18 ; -126,-31.59 -126,-19.59 -88.5,-19.59 -88.5,-31.59 -126,-31.59 ; -126,-6 -126,6 -88.5,6 -88.5,-6 -126,-6 ; -126,19.59 -126,31.59 -88.5,31.59 -88.5,19.59 -126,19.59 ; -126,45.18 -126,57.18 -88.5,57.18 -88.5,45.18 -126,45.18 ; -126,70.77 -126,82.77 -88.5,82.77 -88.5,70.77 -126,70.77 ; -88.5,-100.5 88.5,-100.5 88.5,100.5 -88.5,100.5 -88.5,-100.5 ; 88.5,-82.77 88.5,-70.77 126,-70.77 126,-82.77 88.5,-82.77 ; 88.5,-57.18 88.5,-45.18 126,-45.18 126,-57.18 88.5,-57.18 ; 88.5,-31.59 88.5,-19.59 126,-19.59 126,-31.59 88.5,-31.59 ; 88.5,-6 88.5,6 126,6 126,-6 88.5,-6 ; 88.5,19.59 88.5,31.59 126,31.59 126,19.59 88.5,19.59 ; 88.5,45.18 88.5,57.18 126,57.18 126,45.18 88.5,45.18 ; 88.5,70.77 88.5,82.77 126,82.77 126,70.77 88.5,70.77
  text "*" at -86,47.5 h50
3D body: height 10, standoff 0, extent 0,0 10,10

## TSSOP14_MC-L [mil]
pads (14):
  rect 46x12 smd paste+0 mask+0: 1(-109,76.77) 2(-109,51.18) 3(-109,25.59) 4(-109,0) 5(-109,-25.59) 6(-109,-51.18) 7(-109,-76.77) 8(109,-76.77) 9(109,-51.18) 10(109,-25.59) 11(109,0) 12(109,25.59) 13(109,51.18) 14(109,76.77)
Top Overlay:
  region: 142,-18.09 152,-18.09 152,-33.09 142,-33.09
  lines w6: -93.5,-95.87 -93.5,-105.5 93.5,-105.5 93.5,-95.87 ; -93.5,95.87 -93.5,105.5 93.5,105.5 93.5,95.87
  text "*" at -131.5,83.77 h50
Mechanical 13:
  lines w0: -12,100.5 ccw(c0,100.5) 12,100.5
  lines w1: -126,-82.77 -88.5,-82.77 -88.5,-70.77 -126,-70.77 -126,-82.77 ; -126,-57.18 -88.5,-57.18 -88.5,-45.18 -126,-45.18 -126,-57.18 ; -126,-31.59 -88.5,-31.59 -88.5,-19.59 -126,-19.59 -126,-31.59 ; -126,-6 -88.5,-6 -88.5,6 -126,6 -126,-6 ; -126,19.59 -88.5,19.59 -88.5,31.59 -126,31.59 -126,19.59 ; -126,45.18 -88.5,45.18 -88.5,57.18 -126,57.18 -126,45.18 ; -126,70.77 -88.5,70.77 -88.5,82.77 -126,82.77 -126,70.77 ; -88.5,-100.5 -88.5,100.5 88.5,100.5 88.5,-100.5 -88.5,-100.5 ; 88.5,-82.77 126,-82.77 126,-70.77 88.5,-70.77 88.5,-82.77 ; 88.5,-57.18 126,-57.18 126,-45.18 88.5,-45.18 88.5,-57.18 ; 88.5,-31.59 126,-31.59 126,-19.59 88.5,-19.59 88.5,-31.59 ; 88.5,-6 126,-6 126,6 88.5,6 88.5,-6 ; 88.5,19.59 126,19.59 126,31.59 88.5,31.59 88.5,19.59 ; 88.5,45.18 126,45.18 126,57.18 88.5,57.18 88.5,45.18 ; 88.5,70.77 126,70.77 126,82.77 88.5,82.77 88.5,70.77
  text "*" at -86,47.5 h50
3D body: height 10, standoff 0, extent 0,0 10,10

## TSSOP14_MC-M [mil]
pads (14):
  rect 70x16 smd paste+0 mask+0: 1(-113,76.77) 2(-113,51.18) 3(-113,25.59) 4(-113,0) 5(-113,-25.59) 6(-113,-51.18) 7(-113,-76.77) 8(113,-76.77) 9(113,-51.18) 10(113,-25.59) 11(113,0) 12(113,25.59) 13(113,51.18) 14(113,76.77)
Top Overlay:
  region: 158,-18.09 168,-18.09 168,-33.09 158,-33.09
  lines w6: -93.5,-97.87 -93.5,-105.5 93.5,-105.5 93.5,-97.87 ; -93.5,97.87 -93.5,105.5 93.5,105.5 93.5,97.87
  text "*" at -135.5,87.77 h50
Mechanical 13:
  lines w0: -12,100.5 ccw(c0,100.5) 12,100.5
  lines w1: -126,-82.77 -88.5,-82.77 -88.5,-70.77 -126,-70.77 -126,-82.77 ; -126,-57.18 -88.5,-57.18 -88.5,-45.18 -126,-45.18 -126,-57.18 ; -126,-31.59 -88.5,-31.59 -88.5,-19.59 -126,-19.59 -126,-31.59 ; -126,-6 -88.5,-6 -88.5,6 -126,6 -126,-6 ; -126,19.59 -88.5,19.59 -88.5,31.59 -126,31.59 -126,19.59 ; -126,45.18 -88.5,45.18 -88.5,57.18 -126,57.18 -126,45.18 ; -126,70.77 -88.5,70.77 -88.5,82.77 -126,82.77 -126,70.77 ; -88.5,-100.5 -88.5,100.5 88.5,100.5 88.5,-100.5 -88.5,-100.5 ; 88.5,-82.77 126,-82.77 126,-70.77 88.5,-70.77 88.5,-82.77 ; 88.5,-57.18 126,-57.18 126,-45.18 88.5,-45.18 88.5,-57.18 ; 88.5,-31.59 126,-31.59 126,-19.59 88.5,-19.59 88.5,-31.59 ; 88.5,-6 126,-6 126,6 88.5,6 88.5,-6 ; 88.5,19.59 126,19.59 126,31.59 88.5,31.59 88.5,19.59 ; 88.5,45.18 126,45.18 126,57.18 88.5,57.18 88.5,45.18 ; 88.5,70.77 126,70.77 126,82.77 88.5,82.77 88.5,70.77
  text "*" at -86,47.5 h50
3D body: height 10, standoff 0, extent 0,0 10,10